# EAGLE library part SHIELD-V2 (library ioshub)
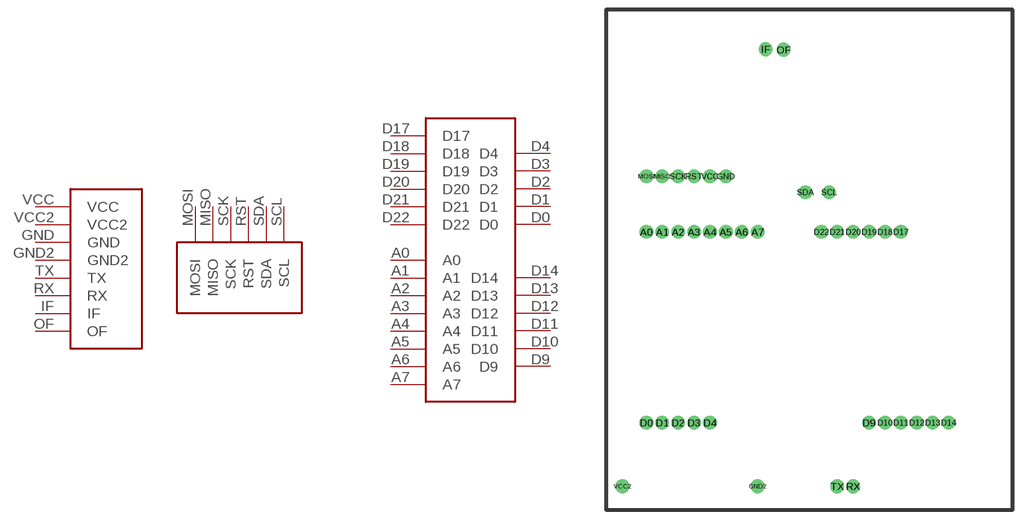
[diagram p8: symbol with the pads of SHIELD-V2; footprint SHIELD-V2]

Designator prefix -

## SHIELD-V2001  [SHIELD-V2]
A0  A0
A1  A1
A2  A2
A3  A3
A4  A4
A5  A5
A6  A6
A7  A7
D0  D0
D1  D1
D2  D2
D3  D3
D4  D4
D9  D9
D10  D10
D11  D11
D12  D12
D13  D13
D14  D14
D17  D17
D18  D18
D19  D19
D20  D20
D21  D21
D22  D22
GND  GND
GND2  GND2
IF  IF
MISO  MISO
MOSI  MOSI
OF  OF
RST  RST
RX  RX
SCK  SCK
SCL  SCL
SDA  SDA
TX  TX
VCC  VCC
VCC2  VCC2

## Footprint SHIELD-V2 (pad centres in mm)
Breakout Versi 2 ATMega32
drill 0.9 pad 2.184: A0 -25.4,8.89; A1 -22.86,8.89; A2 -20.32,8.89; A3 -17.78,8.89; A4 -15.24,8.89; A5 -12.7,8.89; A6 -10.16,8.89; A7 -7.62,8.89; D0 -25.4,-21.59; D1 -22.86,-21.59; D2 -20.32,-21.59; D3 -17.78,-21.59; D4 -15.24,-21.59; D9 10.16,-21.59; D10 12.7,-21.59; D11 15.24,-21.59; D12 17.78,-21.59; D13 20.32,-21.59; D14 22.86,-21.59; D17 15.24,8.89; D18 12.7,8.89; D19 10.16,8.89; D20 7.62,8.89; D21 5.08,8.89; D22 2.54,8.89; GND -12.7,17.78; GND2 -7.62,-31.75; IF -6.35,38.1; MISO -22.86,17.78; MOSI -25.4,17.78; OF -3.454,37.998; RST -17.78,17.78; RX 7.62,-31.75; SCK -20.32,17.78; SCL 3.81,15.24; SDA 0,15.24; TX 5.08,-31.75; VCC -15.24,17.78; VCC2 -29.21,-31.75